# EAGLE library part IP5305 (library charging-ic)
IP5305
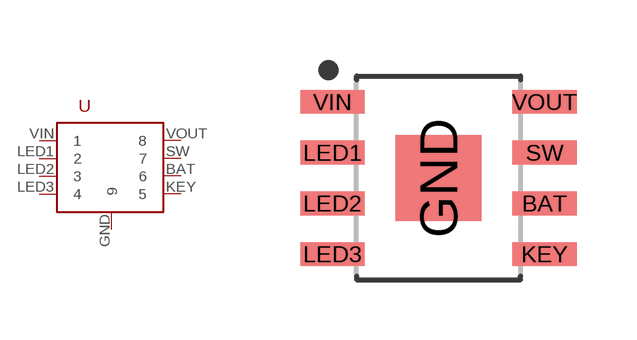
[diagram p0: symbol with the pads of SOIC127P600X165-8; footprint SOIC127P600X165-8]

Designator prefix -

## IP5305ESOP8  [SOIC127P600X165-8]
BAT  6
GND  9
KEY  5
LED1  2  out
LED2  3  out
LED3  4  out
SW  7
VIN  1  pwr
VOUT  8

## Footprint SOIC127P600X165-8 (pad centres in mm)
8-SOIC, 1.27 mm pitch, 6.00 mm span, 4.90 X 3.90 X 1.65 mm body 8-pin SOIC package with 1.27 mm pitch, 6.00 mm span with body size 4.90 X 3.90 X 1.65 mm
smd 1.609 x 0.594: BAT 2.653,-0.635; KEY 2.653,-1.905; LED1 -2.653,0.635; LED2 -2.653,-0.635; LED3 -2.653,-1.905; SW 2.653,0.635; VIN -2.653,1.905; VOUT 2.653,1.905
smd 2.15 x 2.15: GND 0,0